# Altium footprint library TO-126.PcbLib: 1 footprints
Each footprint in its own frame and in the unit in brackets; x right, y up, seen from the top. Pads: shape width x height; smd on the part's side, far side on the other; paste and mask are expansions set on the pad; w line width, h text height; cw(c..) or ccw(c..) is an arc to the next point about the centre after c.
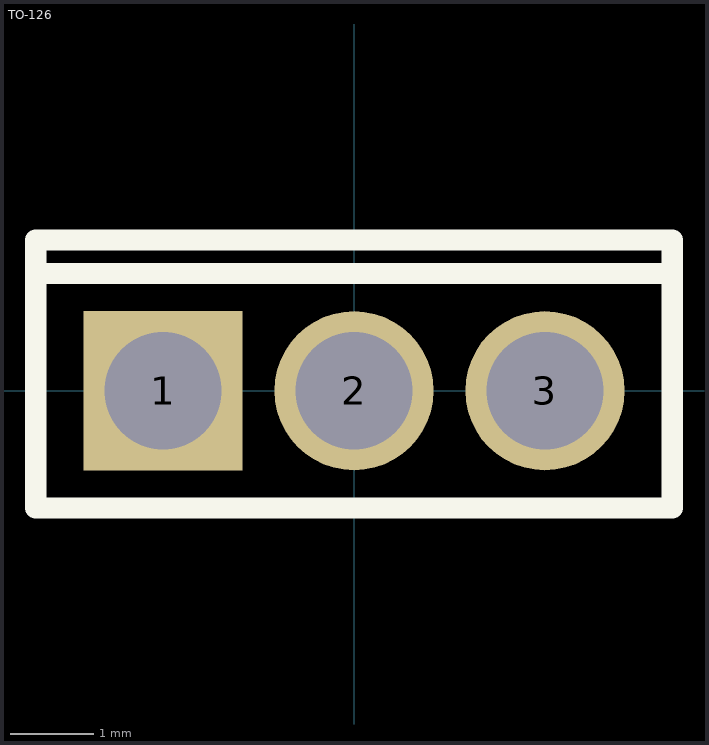
[diagram p0: the footprint, top view; thin cyan lines are the x and y axes]

## TO-126 [mm]
pads (3):
  rect 1.9x1.9 hole 1.4: 1(-2.28,0)
  round 1.9 hole 1.4: 2(0,0) 3(2.28,0)
Top Overlay:
  lines w0.254: -3.8,1.4 3.8,1.4 ; -3.8,-1.4 3.8,-1.4 3.8,1.8 -3.8,1.8 -3.8,-1.4
3D body: height 13.19, standoff -3.54, extent -3.8,-1 3.8,1.55